# EAGLE library part MEGA32U2 (library FABLAB_Kamakura)
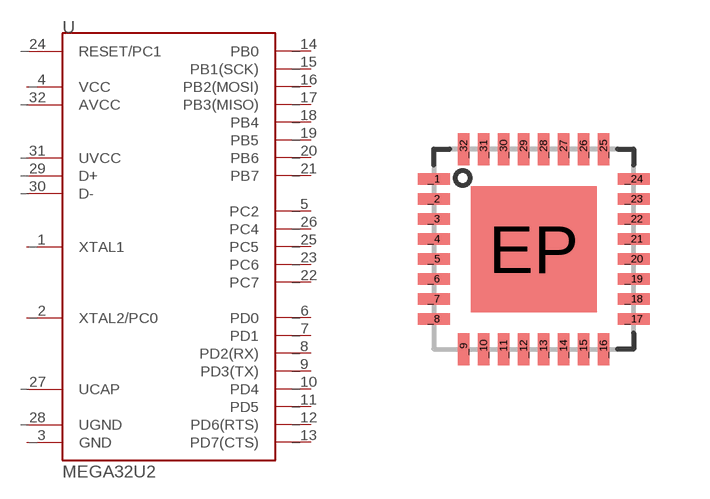
[diagram p3: symbol with the pads of QFN32; footprint QFN32]

Designator prefix -

## MEGA32U2  [QFN32]
_1  XTAL1
_2  XTAL2/PC0
_3  GND
_4  VCC
_5  PC2
_6  PD0
_7  PD1
_8  PD2(RX)
_9  PD3(TX)
_10  PD4
_11  PD5
_12  PD6(RTS)
_13  PD7(CTS)
_14  PB0
_15  PB1(SCK)
_16  PB2(MOSI)
_17  PB3(MISO)
_18  PB4
_19  PB5
_20  PB6
_21  PB7
_22  PC7
_23  PC6
_24  RESET/PC1
_25  PC5
_26  PC4
_27  UCAP
_28  UGND
_29  D+
_30  D-
_31  UVCC
_32  AVCC

## Footprint QFN32 (pad centres in mm)
smd 0.8 x 0.285: _1 -2.5,1.75; _2 -2.5,1.25; _3 -2.5,0.75; _4 -2.5,0.25; _5 -2.5,-0.25; _6 -2.5,-0.75; _7 -2.5,-1.25; _8 -2.5,-1.75; _17 2.5,-1.75; _18 2.5,-1.25; _19 2.5,-0.75; _20 2.5,-0.25; _21 2.5,0.25; _22 2.5,0.75; _23 2.5,1.25; _24 2.5,1.75
smd 0.285 x 0.8: _9 -1.75,-2.5; _10 -1.25,-2.5; _11 -0.75,-2.5; _12 -0.25,-2.5; _13 0.25,-2.5; _14 0.75,-2.5; _15 1.25,-2.5; _16 1.75,-2.5; _25 1.75,2.5; _26 1.25,2.5; _27 0.75,2.5; _28 0.25,2.5; _29 -0.25,2.5; _30 -0.75,2.5; _31 -1.25,2.5; _32 -1.75,2.5
smd 3.15 x 3.15: EP 0,0